# Altium footprint library TLP290_SE_T.PcbLib: 1 footprints
Each footprint in its own frame and in the unit in brackets; x right, y up, seen from the top. Pads: shape width x height; smd on the part's side, far side on the other; paste and mask are expansions set on the pad; w line width, h text height; cw(c..) or ccw(c..) is an arc to the next point about the centre after c.
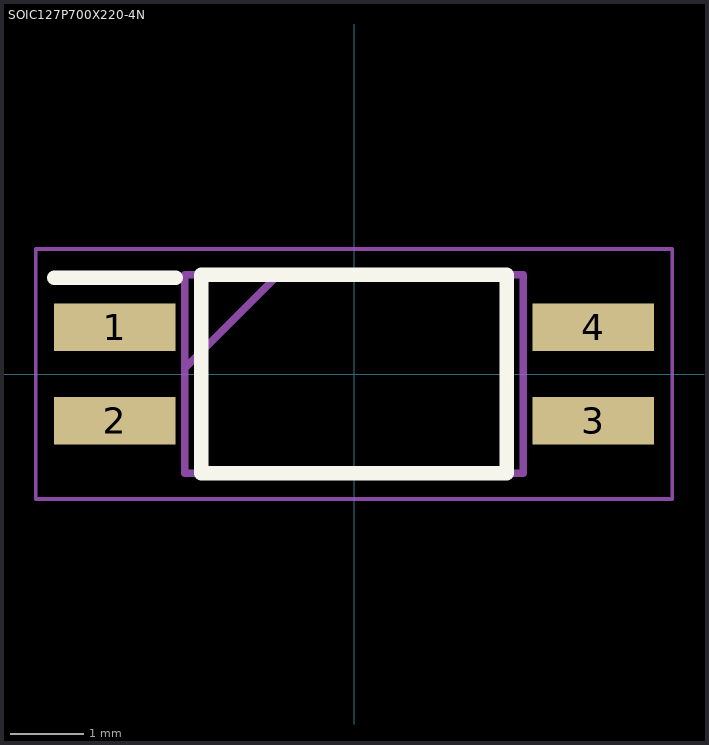
[diagram p0: the footprint, top view; thin cyan lines are the x and y axes]

## SOIC127P700X220-4N [mm]
pads (4):
  rect 1.65x0.65 smd: 1(-3.25,0.635) 2(-3.25,-0.635) 3(3.25,-0.635) 4(3.25,0.635)
Top Overlay:
  lines w0.2: -4.075,1.31 -2.425,1.31 ; -2.075,-1.35 -2.075,1.35 2.075,1.35 2.075,-1.35 -2.075,-1.35
Mechanical 13:
  lines w0.1: -2.3,0.08 -1.03,1.35 ; -2.3,-1.35 -2.3,1.35 2.3,1.35 2.3,-1.35 -2.3,-1.35
Mechanical 15:
  lines w0.05: -4.325,-1.7 -4.325,1.7 4.325,1.7 4.325,-1.7 -4.325,-1.7
3D body "TLP290_SE_T.stp": height 2.2, standoff 0, extent -3.5,-1.35 3.5,1.35